# Altium integrated library S2B-PH-SM4.IntLib: 1 symbol
Pins are listed as number, name and electrical type; pins without a type are passive.

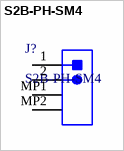
[diagram p0: symbol S2B-PH-SM4]

## S2B-PH-SM4
designator J?
Male Header, Pitch 2 mm, 1 x 2 Position, Height 5.5 mm
footprint JST-S2B-PH-SM4-TB(LF)(SN)-2_V
pins: 1, 2, MP1, MP2